# Altium integrated library Linear Technology Power Management Power Control.IntLib: 661 symbols (part 25 of 43)
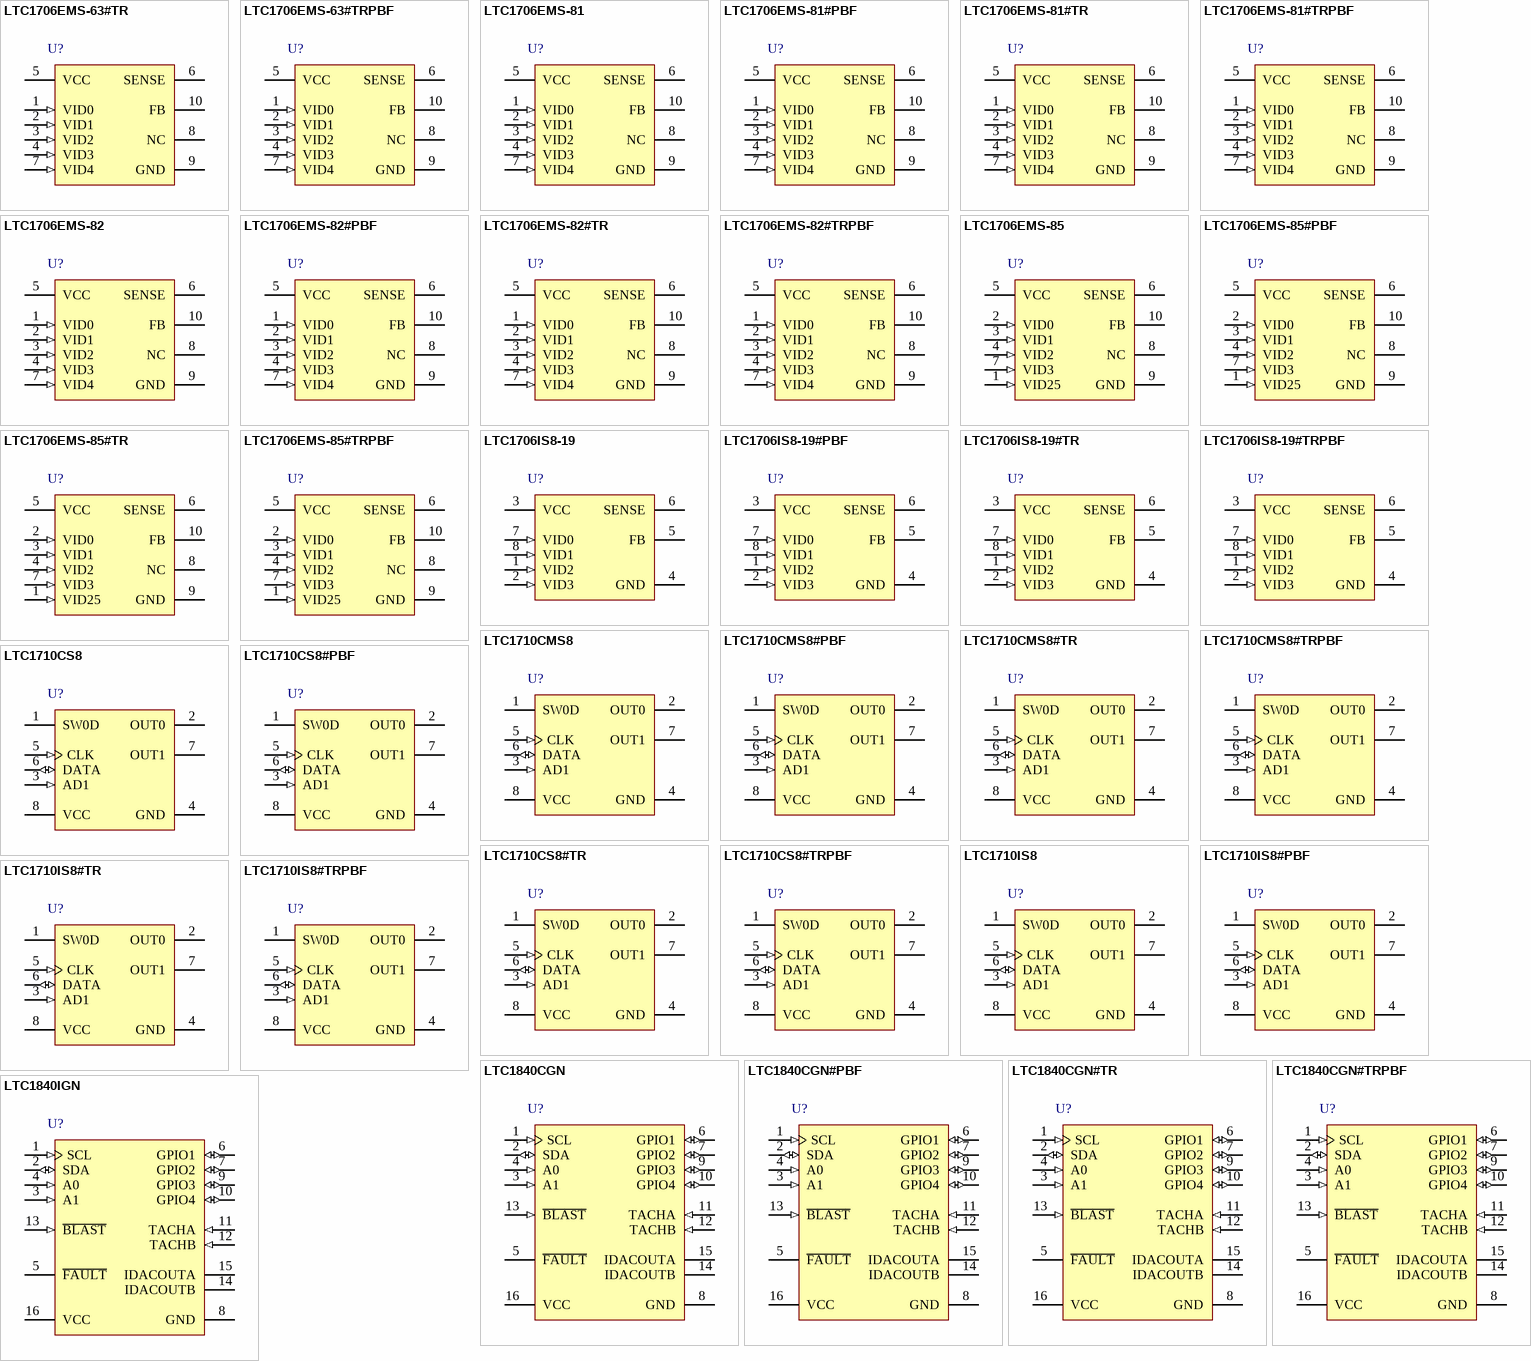
[diagram p43: symbols LTC1706EMS-63#TR to LTC1840IGN]

## LTC1840CGN
designator U?
Fan Speed Controller with Two Tach Inputs and Four General Purpose I/O, 2.7 to 5.75 V Vin, 16-pin SOP (GN-16), 0 to 70 degC; Manufacturer: Linear Technology; PartNumber: LTC1840CGN; PackageVersion: Rev. B, 03/2012; PackageReference: GN-16; PackageDescription: 16-Pin Plastic SSOP, Body 4.9 x 3.9 mm, Pitch 0.635 mm; Supplier 1: Digi-Key; Supplier Part Number 1: LTC1840CGN-ND; Supplier 2: Newark; Supplier Part Number 2: 56M3873; RoHS: FLASE; Mounting Technology: Surface Mount; ComponentLink1Description: Manufacturer URL; ComponentLink1URL: http://www.linear.com/; ComponentLink2Description: Datasheet; ComponentLink2URL: http://cds.linear.com/docs/en/datasheet/1840f.pdf; ComponentLink3Description: Package Specification; ComponentLink3URL: http://cds.linear.com/docs/en/packaging/05081641_B_GN16.pdf
footprint LT-GN-16_N (SOP, 16-Leads, Body 5x4mm, Pitch 0.635mm, IPC Medium Density)
footprint LT-GN-16_L (SOP, 16-Leads, Body 5x4mm, Pitch 0.635mm, IPC High Density)
footprint LT-GN-16_M (SOP, 16-Leads, Body 5x4mm, Pitch 0.635mm, IPC Low Density)
pins: 1 SCL (in) "Serial Clock Input. The 2-wire bus master device clocks this pin at a frequency between 0kHz and 100kHz to enable serial bus communications. Data at the SDA pin is shifted in or out on rising SCL edges. SCL has a logic (See Datasheet)", 2 SDA (io) "Serial Data Input. This is a bidirectional data pin which normally has an external pull-up resistor or current source and can be pulled down by the open drain device on the LTC1840 or by external devices. The master controls (See Datasheet)", 3 A1 (in) "Three State Address Programming Input. This pin can cause three different logic states internally, depending upon whether it is pulled to supply, pulled to ground, or not connected (NC). Combined with the A0 pin, this (See Datasheet)", 4 A0 (in) "Three State Address Programming Input. See A1.", 5 ~{FAULT} (oc) "Fault Indicator Pull-Down Output. This pin has an open drain pull-down that is used to signal various fault conditions on the LTC1840. An external 10k pull-up is recommended.", 6 GPIO1 (io) "General Purpose Inputs/Outputs. These pins can be used as digital inputs with CMOS logic thresholds or digital outputs/LED drivers with open drain pull-downs that can be programmed to blink. GPIO pins can be programmed to (See Datasheet)", 7 GPIO2 (io) "General Purpose Inputs/Outputs. These pins can be used as digital inputs with CMOS logic thresholds or digital outputs/LED drivers with open drain pull-downs that can be programmed to blink. GPIO pins can be programmed to (See Datasheet)", 8 GND (power) "Ground. Connect to analog ground plane.", 9 GPIO3 (io) "General Purpose Inputs/Outputs. These pins can be used as digital inputs with CMOS logic thresholds or digital outputs/LED drivers with open drain pull-downs that can be programmed to blink. GPIO pins can be programmed to (See Datasheet)", 10 GPIO4 (io) "General Purpose Inputs/Outputs. These pins can be used as digital inputs with CMOS logic thresholds or digital outputs/LED drivers with open drain pull-downs that can be programmed to blink. GPIO pins can be programmed to (See Datasheet)", 11 TACHA (in) "Tachometer Input A. This pin is a digital input that is designed to interface to the tachometer output from a 3-wire fan. Internal logic counts between rising TACHA edges at serially programmable frequencies of 25kHz, 12.(See Datasheet)", 12 TACHB (in) "Tachometer Input B. See TACHA", 13 ~{BLAST} (in) "Blast/Timer Function Input. This is a multifunction digital input pin that controls blast and timer operation. If this pin is in a logic high state at power-up or is transitioned from high to low, it will “blast?(See Datasheet)", 14 IDACOUTB (hiz) "Current DAC Output B. This is a high impedance output with a sinking current output of 0uA to 100uA. This current can be programmed to one of 256 values through the serial interface or it can be “blasted?immediately(See Datasheet)", 15 IDACOUTA (hiz) "Current DAC Output A. See IDACOUTB", 16 VCC (power) "Positive Supply. This pin must be closely decoupled to ground (pin 8). A 10uF tantalum and a 0.1uF ceramic capacitor in parallel are recommended."

## LTC1840CGN#PBF
designator U?
Fan Speed Controller with Two Tach Inputs and Four General Purpose I/O, 2.7 to 5.75 V Vin, 16-pin SOP (GN-16), 0 to 70 degC, Pb-Free; Manufacturer: Linear Technology; PartNumber: LTC1840CGN#PBF; PackageVersion: Rev. B, 03/2012; PackageReference: GN-16; PackageDescription: 16-Pin Plastic SSOP, Body 4.9 x 3.9 mm, Pitch 0.635 mm; Supplier 1: Digi-Key; Supplier Part Number 1: LTC1840CGN#PBF-ND; Supplier 2: Newark; Supplier Part Number 2: 56M3874; RoHS: TRUE; Mounting Technology: Surface Mount; ComponentLink1Description: Manufacturer URL; ComponentLink1URL: http://www.linear.com/; ComponentLink2Description: Datasheet; ComponentLink2URL: http://cds.linear.com/docs/en/datasheet/1840f.pdf; ComponentLink3Description: Package Specification; ComponentLink3URL: http://cds.linear.com/docs/en/packaging/05081641_B_GN16.pdf
footprint LT-GN-16_N (SOP, 16-Leads, Body 5x4mm, Pitch 0.635mm, IPC Medium Density)
footprint LT-GN-16_L (SOP, 16-Leads, Body 5x4mm, Pitch 0.635mm, IPC High Density)
footprint LT-GN-16_M (SOP, 16-Leads, Body 5x4mm, Pitch 0.635mm, IPC Low Density)
pins: 1 SCL (in) "Serial Clock Input. The 2-wire bus master device clocks this pin at a frequency between 0kHz and 100kHz to enable serial bus communications. Data at the SDA pin is shifted in or out on rising SCL edges. SCL has a logic (See Datasheet)", 2 SDA (io) "Serial Data Input. This is a bidirectional data pin which normally has an external pull-up resistor or current source and can be pulled down by the open drain device on the LTC1840 or by external devices. The master controls (See Datasheet)", 3 A1 (in) "Three State Address Programming Input. This pin can cause three different logic states internally, depending upon whether it is pulled to supply, pulled to ground, or not connected (NC). Combined with the A0 pin, this (See Datasheet)", 4 A0 (in) "Three State Address Programming Input. See A1.", 5 ~{FAULT} (oc) "Fault Indicator Pull-Down Output. This pin has an open drain pull-down that is used to signal various fault conditions on the LTC1840. An external 10k pull-up is recommended.", 6 GPIO1 (io) "General Purpose Inputs/Outputs. These pins can be used as digital inputs with CMOS logic thresholds or digital outputs/LED drivers with open drain pull-downs that can be programmed to blink. GPIO pins can be programmed to (See Datasheet)", 7 GPIO2 (io) "General Purpose Inputs/Outputs. These pins can be used as digital inputs with CMOS logic thresholds or digital outputs/LED drivers with open drain pull-downs that can be programmed to blink. GPIO pins can be programmed to (See Datasheet)", 8 GND (power) "Ground. Connect to analog ground plane.", 9 GPIO3 (io) "General Purpose Inputs/Outputs. These pins can be used as digital inputs with CMOS logic thresholds or digital outputs/LED drivers with open drain pull-downs that can be programmed to blink. GPIO pins can be programmed to (See Datasheet)", 10 GPIO4 (io) "General Purpose Inputs/Outputs. These pins can be used as digital inputs with CMOS logic thresholds or digital outputs/LED drivers with open drain pull-downs that can be programmed to blink. GPIO pins can be programmed to (See Datasheet)", 11 TACHA (in) "Tachometer Input A. This pin is a digital input that is designed to interface to the tachometer output from a 3-wire fan. Internal logic counts between rising TACHA edges at serially programmable frequencies of 25kHz, 12.(See Datasheet)", 12 TACHB (in) "Tachometer Input B. See TACHA", 13 ~{BLAST} (in) "Blast/Timer Function Input. This is a multifunction digital input pin that controls blast and timer operation. If this pin is in a logic high state at power-up or is transitioned from high to low, it will “blast?(See Datasheet)", 14 IDACOUTB (hiz) "Current DAC Output B. This is a high impedance output with a sinking current output of 0uA to 100uA. This current can be programmed to one of 256 values through the serial interface or it can be “blasted?immediately(See Datasheet)", 15 IDACOUTA (hiz) "Current DAC Output A. See IDACOUTB", 16 VCC (power) "Positive Supply. This pin must be closely decoupled to ground (pin 8). A 10uF tantalum and a 0.1uF ceramic capacitor in parallel are recommended."

## LTC1840CGN#TR
designator U?
Fan Speed Controller with Two Tach Inputs and Four General Purpose I/O, 2.7 to 5.75 V Vin, 16-pin SOP (GN-16), 0 to 70 degC, Tape and Reel; Manufacturer: Linear Technology; PartNumber: LTC1840CGN#TR; PackageVersion: Rev. B, 03/2012; PackageReference: GN-16; PackageDescription: 16-Pin Plastic SSOP, Body 4.9 x 3.9 mm, Pitch 0.635 mm; Supplier 1: Digi-Key; Supplier Part Number 1: LTC1840CGNTR-ND; Packing: Tape and Reel; RoHS: FLASE; Mounting Technology: Surface Mount; ComponentLink1Description: Manufacturer URL; ComponentLink1URL: http://www.linear.com/; ComponentLink2Description: Datasheet; ComponentLink2URL: http://cds.linear.com/docs/en/datasheet/1840f.pdf; ComponentLink3Description: Package Specification; ComponentLink3URL: http://cds.linear.com/docs/en/packaging/05081641_B_GN16.pdf
footprint LT-GN-16_N (SOP, 16-Leads, Body 5x4mm, Pitch 0.635mm, IPC Medium Density)
footprint LT-GN-16_L (SOP, 16-Leads, Body 5x4mm, Pitch 0.635mm, IPC High Density)
footprint LT-GN-16_M (SOP, 16-Leads, Body 5x4mm, Pitch 0.635mm, IPC Low Density)
pins: 1 SCL (in) "Serial Clock Input. The 2-wire bus master device clocks this pin at a frequency between 0kHz and 100kHz to enable serial bus communications. Data at the SDA pin is shifted in or out on rising SCL edges. SCL has a logic (See Datasheet)", 2 SDA (io) "Serial Data Input. This is a bidirectional data pin which normally has an external pull-up resistor or current source and can be pulled down by the open drain device on the LTC1840 or by external devices. The master controls (See Datasheet)", 3 A1 (in) "Three State Address Programming Input. This pin can cause three different logic states internally, depending upon whether it is pulled to supply, pulled to ground, or not connected (NC). Combined with the A0 pin, this (See Datasheet)", 4 A0 (in) "Three State Address Programming Input. See A1.", 5 ~{FAULT} (oc) "Fault Indicator Pull-Down Output. This pin has an open drain pull-down that is used to signal various fault conditions on the LTC1840. An external 10k pull-up is recommended.", 6 GPIO1 (io) "General Purpose Inputs/Outputs. These pins can be used as digital inputs with CMOS logic thresholds or digital outputs/LED drivers with open drain pull-downs that can be programmed to blink. GPIO pins can be programmed to (See Datasheet)", 7 GPIO2 (io) "General Purpose Inputs/Outputs. These pins can be used as digital inputs with CMOS logic thresholds or digital outputs/LED drivers with open drain pull-downs that can be programmed to blink. GPIO pins can be programmed to (See Datasheet)", 8 GND (power) "Ground. Connect to analog ground plane.", 9 GPIO3 (io) "General Purpose Inputs/Outputs. These pins can be used as digital inputs with CMOS logic thresholds or digital outputs/LED drivers with open drain pull-downs that can be programmed to blink. GPIO pins can be programmed to (See Datasheet)", 10 GPIO4 (io) "General Purpose Inputs/Outputs. These pins can be used as digital inputs with CMOS logic thresholds or digital outputs/LED drivers with open drain pull-downs that can be programmed to blink. GPIO pins can be programmed to (See Datasheet)", 11 TACHA (in) "Tachometer Input A. This pin is a digital input that is designed to interface to the tachometer output from a 3-wire fan. Internal logic counts between rising TACHA edges at serially programmable frequencies of 25kHz, 12.(See Datasheet)", 12 TACHB (in) "Tachometer Input B. See TACHA", 13 ~{BLAST} (in) "Blast/Timer Function Input. This is a multifunction digital input pin that controls blast and timer operation. If this pin is in a logic high state at power-up or is transitioned from high to low, it will “blast?(See Datasheet)", 14 IDACOUTB (hiz) "Current DAC Output B. This is a high impedance output with a sinking current output of 0uA to 100uA. This current can be programmed to one of 256 values through the serial interface or it can be “blasted?immediately(See Datasheet)", 15 IDACOUTA (hiz) "Current DAC Output A. See IDACOUTB", 16 VCC (power) "Positive Supply. This pin must be closely decoupled to ground (pin 8). A 10uF tantalum and a 0.1uF ceramic capacitor in parallel are recommended."

## LTC1840CGN#TRPBF
designator U?
Fan Speed Controller with Two Tach Inputs and Four General Purpose I/O, 2.7 to 5.75 V Vin, 16-pin SOP (GN-16), 0 to 70 degC, Pb-Free, Tape and Reel; Manufacturer: Linear Technology; PartNumber: LTC1840CGN#TRPBF; PackageVersion: Rev. B, 03/2012; PackageReference: GN-16; PackageDescription: 16-Pin Plastic SSOP, Body 4.9 x 3.9 mm, Pitch 0.635 mm; Supplier 1: Digi-Key; Supplier Part Number 1: LTC1840CGN#TRPBF-ND; Supplier 2: Newark; Supplier Part Number 2: 56M3876; Packing: Tape and Reel; RoHS: TRUE; Mounting Technology: Surface Mount; ComponentLink1Description: Manufacturer URL; ComponentLink1URL: http://www.linear.com/; ComponentLink2Description: Datasheet; ComponentLink2URL: http://cds.linear.com/docs/en/datasheet/1840f.pdf; ComponentLink3Description: Package Specification; ComponentLink3URL: http://cds.linear.com/docs/en/packaging/05081641_B_GN16.pdf
footprint LT-GN-16_N (SOP, 16-Leads, Body 5x4mm, Pitch 0.635mm, IPC Medium Density)
footprint LT-GN-16_L (SOP, 16-Leads, Body 5x4mm, Pitch 0.635mm, IPC High Density)
footprint LT-GN-16_M (SOP, 16-Leads, Body 5x4mm, Pitch 0.635mm, IPC Low Density)
pins: 1 SCL (in) "Serial Clock Input. The 2-wire bus master device clocks this pin at a frequency between 0kHz and 100kHz to enable serial bus communications. Data at the SDA pin is shifted in or out on rising SCL edges. SCL has a logic (See Datasheet)", 2 SDA (io) "Serial Data Input. This is a bidirectional data pin which normally has an external pull-up resistor or current source and can be pulled down by the open drain device on the LTC1840 or by external devices. The master controls (See Datasheet)", 3 A1 (in) "Three State Address Programming Input. This pin can cause three different logic states internally, depending upon whether it is pulled to supply, pulled to ground, or not connected (NC). Combined with the A0 pin, this (See Datasheet)", 4 A0 (in) "Three State Address Programming Input. See A1.", 5 ~{FAULT} (oc) "Fault Indicator Pull-Down Output. This pin has an open drain pull-down that is used to signal various fault conditions on the LTC1840. An external 10k pull-up is recommended.", 6 GPIO1 (io) "General Purpose Inputs/Outputs. These pins can be used as digital inputs with CMOS logic thresholds or digital outputs/LED drivers with open drain pull-downs that can be programmed to blink. GPIO pins can be programmed to (See Datasheet)", 7 GPIO2 (io) "General Purpose Inputs/Outputs. These pins can be used as digital inputs with CMOS logic thresholds or digital outputs/LED drivers with open drain pull-downs that can be programmed to blink. GPIO pins can be programmed to (See Datasheet)", 8 GND (power) "Ground. Connect to analog ground plane.", 9 GPIO3 (io) "General Purpose Inputs/Outputs. These pins can be used as digital inputs with CMOS logic thresholds or digital outputs/LED drivers with open drain pull-downs that can be programmed to blink. GPIO pins can be programmed to (See Datasheet)", 10 GPIO4 (io) "General Purpose Inputs/Outputs. These pins can be used as digital inputs with CMOS logic thresholds or digital outputs/LED drivers with open drain pull-downs that can be programmed to blink. GPIO pins can be programmed to (See Datasheet)", 11 TACHA (in) "Tachometer Input A. This pin is a digital input that is designed to interface to the tachometer output from a 3-wire fan. Internal logic counts between rising TACHA edges at serially programmable frequencies of 25kHz, 12.(See Datasheet)", 12 TACHB (in) "Tachometer Input B. See TACHA", 13 ~{BLAST} (in) "Blast/Timer Function Input. This is a multifunction digital input pin that controls blast and timer operation. If this pin is in a logic high state at power-up or is transitioned from high to low, it will “blast?(See Datasheet)", 14 IDACOUTB (hiz) "Current DAC Output B. This is a high impedance output with a sinking current output of 0uA to 100uA. This current can be programmed to one of 256 values through the serial interface or it can be “blasted?immediately(See Datasheet)", 15 IDACOUTA (hiz) "Current DAC Output A. See IDACOUTB", 16 VCC (power) "Positive Supply. This pin must be closely decoupled to ground (pin 8). A 10uF tantalum and a 0.1uF ceramic capacitor in parallel are recommended."

## LTC1840IGN
designator U?
Fan Speed Controller with Two Tach Inputs and Four General Purpose I/O, 2.7 to 5.75 V Vin, 16-pin SOP (GN-16), -40 to 85 degC; Manufacturer: Linear Technology; PartNumber: LTC1840IGN; PackageVersion: Rev. B, 03/2012; PackageReference: GN-16; PackageDescription: 16-Pin Plastic SSOP, Body 4.9 x 3.9 mm, Pitch 0.635 mm; Supplier 1: Digi-Key; Supplier Part Number 1: LTC1840IGN-ND; Supplier 2: Newark; Supplier Part Number 2: 56M3877; RoHS: FLASE; Mounting Technology: Surface Mount; ComponentLink1Description: Manufacturer URL; ComponentLink1URL: http://www.linear.com/; ComponentLink2Description: Datasheet; ComponentLink2URL: http://cds.linear.com/docs/en/datasheet/1840f.pdf; ComponentLink3Description: Package Specification; ComponentLink3URL: http://cds.linear.com/docs/en/packaging/05081641_B_GN16.pdf
footprint LT-GN-16_N (SOP, 16-Leads, Body 5x4mm, Pitch 0.635mm, IPC Medium Density)
footprint LT-GN-16_L (SOP, 16-Leads, Body 5x4mm, Pitch 0.635mm, IPC High Density)
footprint LT-GN-16_M (SOP, 16-Leads, Body 5x4mm, Pitch 0.635mm, IPC Low Density)
pins: 1 SCL (in) "Serial Clock Input. The 2-wire bus master device clocks this pin at a frequency between 0kHz and 100kHz to enable serial bus communications. Data at the SDA pin is shifted in or out on rising SCL edges. SCL has a logic (See Datasheet)", 2 SDA (io) "Serial Data Input. This is a bidirectional data pin which normally has an external pull-up resistor or current source and can be pulled down by the open drain device on the LTC1840 or by external devices. The master controls (See Datasheet)", 3 A1 (in) "Three State Address Programming Input. This pin can cause three different logic states internally, depending upon whether it is pulled to supply, pulled to ground, or not connected (NC). Combined with the A0 pin, this (See Datasheet)", 4 A0 (in) "Three State Address Programming Input. See A1.", 5 ~{FAULT} (oc) "Fault Indicator Pull-Down Output. This pin has an open drain pull-down that is used to signal various fault conditions on the LTC1840. An external 10k pull-up is recommended.", 6 GPIO1 (io) "General Purpose Inputs/Outputs. These pins can be used as digital inputs with CMOS logic thresholds or digital outputs/LED drivers with open drain pull-downs that can be programmed to blink. GPIO pins can be programmed to (See Datasheet)", 7 GPIO2 (io) "General Purpose Inputs/Outputs. These pins can be used as digital inputs with CMOS logic thresholds or digital outputs/LED drivers with open drain pull-downs that can be programmed to blink. GPIO pins can be programmed to (See Datasheet)", 8 GND (power) "Ground. Connect to analog ground plane.", 9 GPIO3 (io) "General Purpose Inputs/Outputs. These pins can be used as digital inputs with CMOS logic thresholds or digital outputs/LED drivers with open drain pull-downs that can be programmed to blink. GPIO pins can be programmed to (See Datasheet)", 10 GPIO4 (io) "General Purpose Inputs/Outputs. These pins can be used as digital inputs with CMOS logic thresholds or digital outputs/LED drivers with open drain pull-downs that can be programmed to blink. GPIO pins can be programmed to (See Datasheet)", 11 TACHA (in) "Tachometer Input A. This pin is a digital input that is designed to interface to the tachometer output from a 3-wire fan. Internal logic counts between rising TACHA edges at serially programmable frequencies of 25kHz, 12.(See Datasheet)", 12 TACHB (in) "Tachometer Input B. See TACHA", 13 ~{BLAST} (in) "Blast/Timer Function Input. This is a multifunction digital input pin that controls blast and timer operation. If this pin is in a logic high state at power-up or is transitioned from high to low, it will “blast?(See Datasheet)", 14 IDACOUTB (hiz) "Current DAC Output B. This is a high impedance output with a sinking current output of 0uA to 100uA. This current can be programmed to one of 256 values through the serial interface or it can be “blasted?immediately(See Datasheet)", 15 IDACOUTA (hiz) "Current DAC Output A. See IDACOUTB", 16 VCC (power) "Positive Supply. This pin must be closely decoupled to ground (pin 8). A 10uF tantalum and a 0.1uF ceramic capacitor in parallel are recommended."

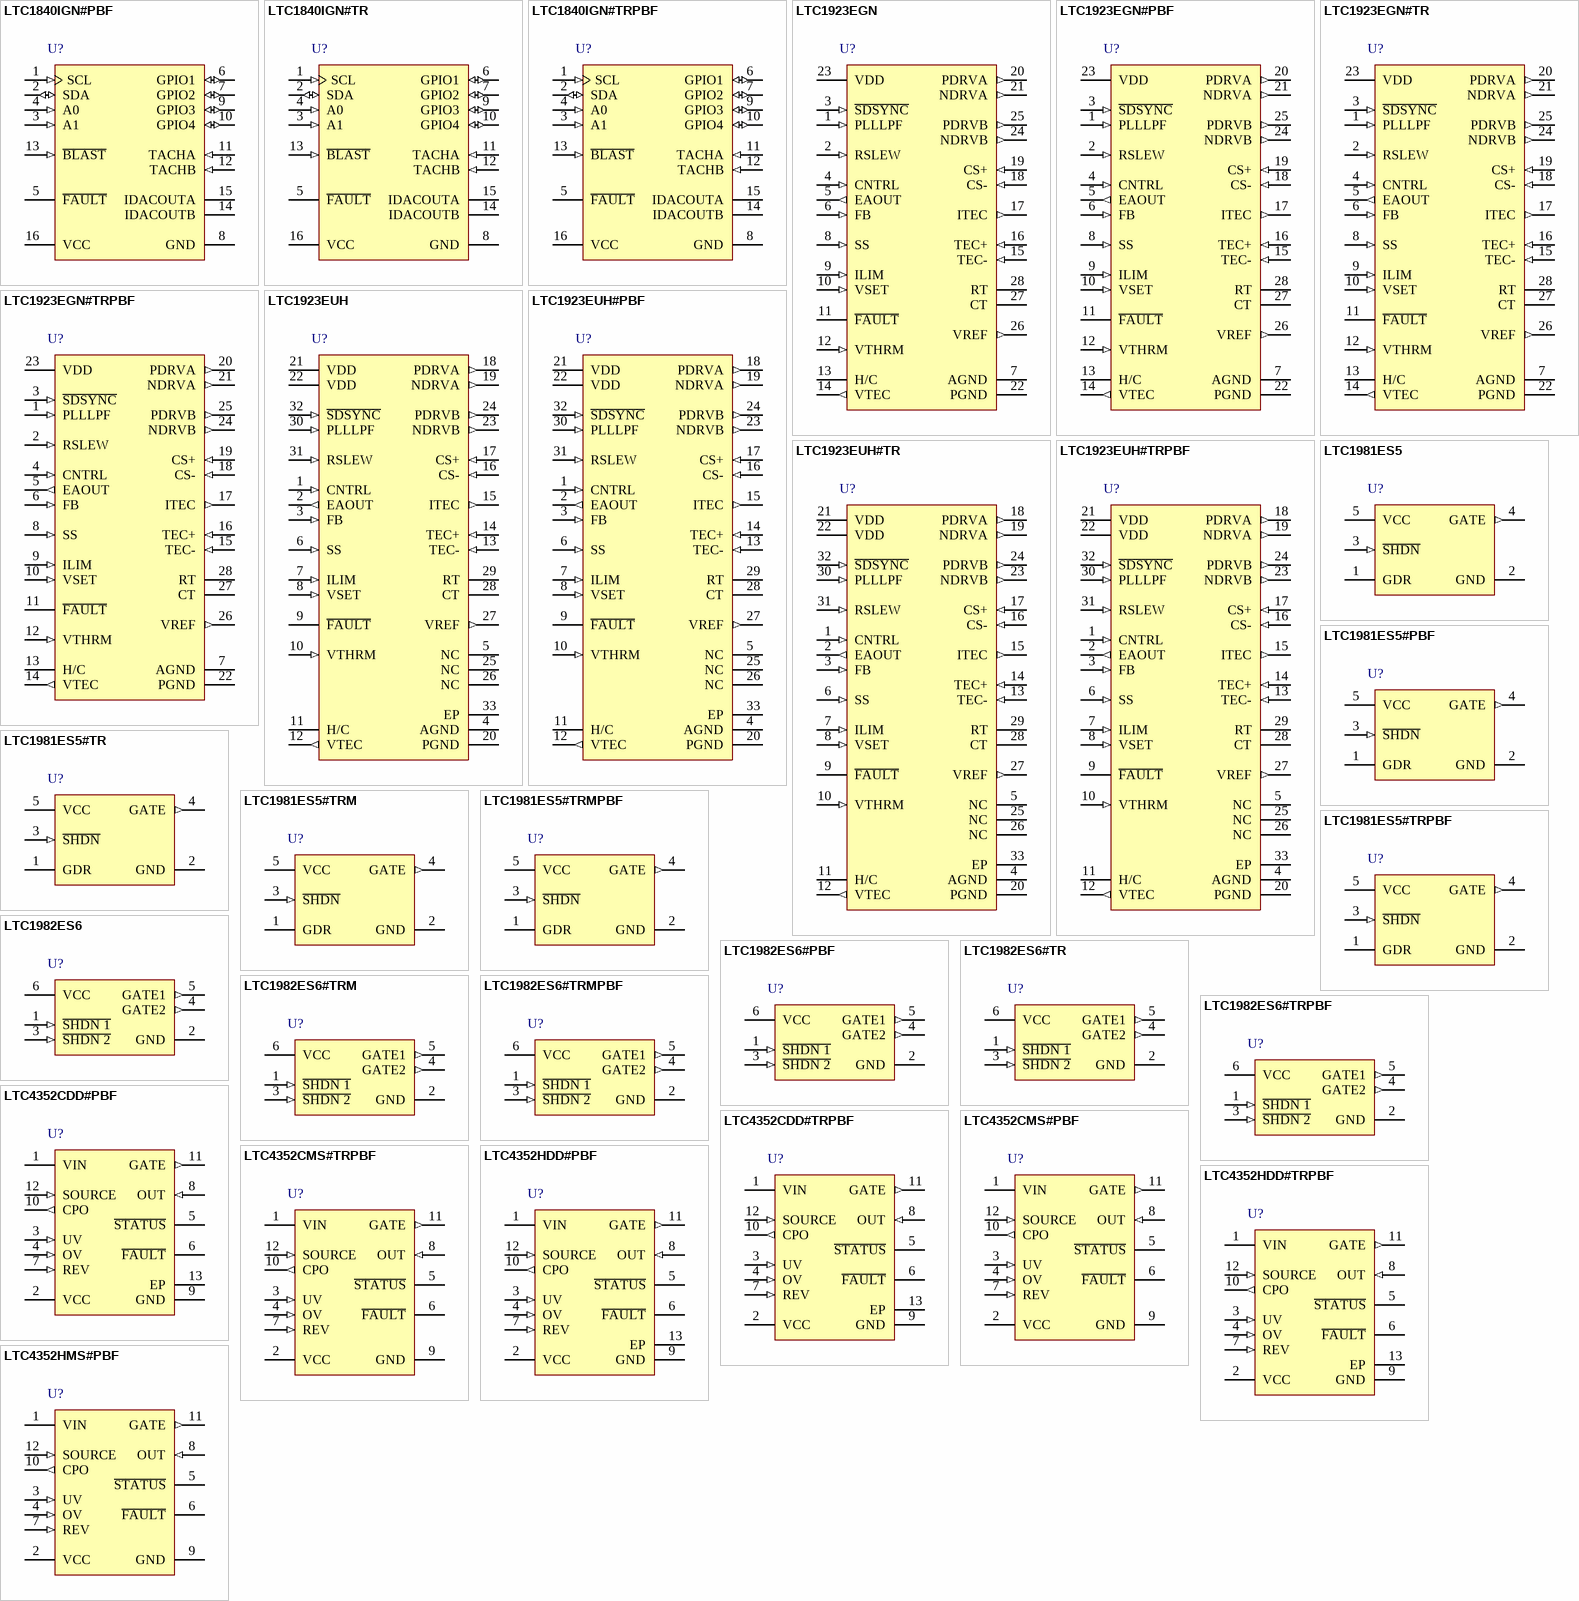
[diagram p12: symbols LTC1840IGN#PBF to LTC4352HMS#PBF]

## LTC1840IGN#PBF
designator U?
Fan Speed Controller with Two Tach Inputs and Four General Purpose I/O, 2.7 to 5.75 V Vin, 16-pin SOP (GN-16), -40 to 85 degC, Pb-Free; Manufacturer: Linear Technology; PartNumber: LTC1840IGN#PBF; PackageVersion: Rev. B, 03/2012; PackageReference: GN-16; PackageDescription: 16-Pin Plastic SSOP, Body 4.9 x 3.9 mm, Pitch 0.635 mm; Supplier 1: Digi-Key; Supplier Part Number 1: LTC1840IGN#PBF-ND; Supplier 2: Farnell; Supplier Part Number 2: 1609782; Supplier 3: Newark; Supplier Part Number 3: 56M3878; RoHS: TRUE; Mounting Technology: Surface Mount; ComponentLink1Description: Manufacturer URL; ComponentLink1URL: http://www.linear.com/; ComponentLink2Description: Datasheet; ComponentLink2URL: http://cds.linear.com/docs/en/datasheet/1840f.pdf; ComponentLink3Description: Package Specification; ComponentLink3URL: http://cds.linear.com/docs/en/packaging/05081641_B_GN16.pdf
footprint LT-GN-16_N (SOP, 16-Leads, Body 5x4mm, Pitch 0.635mm, IPC Medium Density)
footprint LT-GN-16_L (SOP, 16-Leads, Body 5x4mm, Pitch 0.635mm, IPC High Density)
footprint LT-GN-16_M (SOP, 16-Leads, Body 5x4mm, Pitch 0.635mm, IPC Low Density)
pins: 1 SCL (in) "Serial Clock Input. The 2-wire bus master device clocks this pin at a frequency between 0kHz and 100kHz to enable serial bus communications. Data at the SDA pin is shifted in or out on rising SCL edges. SCL has a logic (See Datasheet)", 2 SDA (io) "Serial Data Input. This is a bidirectional data pin which normally has an external pull-up resistor or current source and can be pulled down by the open drain device on the LTC1840 or by external devices. The master controls (See Datasheet)", 3 A1 (in) "Three State Address Programming Input. This pin can cause three different logic states internally, depending upon whether it is pulled to supply, pulled to ground, or not connected (NC). Combined with the A0 pin, this (See Datasheet)", 4 A0 (in) "Three State Address Programming Input. See A1.", 5 ~{FAULT} (oc) "Fault Indicator Pull-Down Output. This pin has an open drain pull-down that is used to signal various fault conditions on the LTC1840. An external 10k pull-up is recommended.", 6 GPIO1 (io) "General Purpose Inputs/Outputs. These pins can be used as digital inputs with CMOS logic thresholds or digital outputs/LED drivers with open drain pull-downs that can be programmed to blink. GPIO pins can be programmed to (See Datasheet)", 7 GPIO2 (io) "General Purpose Inputs/Outputs. These pins can be used as digital inputs with CMOS logic thresholds or digital outputs/LED drivers with open drain pull-downs that can be programmed to blink. GPIO pins can be programmed to (See Datasheet)", 8 GND (power) "Ground. Connect to analog ground plane.", 9 GPIO3 (io) "General Purpose Inputs/Outputs. These pins can be used as digital inputs with CMOS logic thresholds or digital outputs/LED drivers with open drain pull-downs that can be programmed to blink. GPIO pins can be programmed to (See Datasheet)", 10 GPIO4 (io) "General Purpose Inputs/Outputs. These pins can be used as digital inputs with CMOS logic thresholds or digital outputs/LED drivers with open drain pull-downs that can be programmed to blink. GPIO pins can be programmed to (See Datasheet)", 11 TACHA (in) "Tachometer Input A. This pin is a digital input that is designed to interface to the tachometer output from a 3-wire fan. Internal logic counts between rising TACHA edges at serially programmable frequencies of 25kHz, 12.(See Datasheet)", 12 TACHB (in) "Tachometer Input B. See TACHA", 13 ~{BLAST} (in) "Blast/Timer Function Input. This is a multifunction digital input pin that controls blast and timer operation. If this pin is in a logic high state at power-up or is transitioned from high to low, it will “blast?(See Datasheet)", 14 IDACOUTB (hiz) "Current DAC Output B. This is a high impedance output with a sinking current output of 0uA to 100uA. This current can be programmed to one of 256 values through the serial interface or it can be “blasted?immediately(See Datasheet)", 15 IDACOUTA (hiz) "Current DAC Output A. See IDACOUTB", 16 VCC (power) "Positive Supply. This pin must be closely decoupled to ground (pin 8). A 10uF tantalum and a 0.1uF ceramic capacitor in parallel are recommended."

## LTC1840IGN#TR
designator U?
Fan Speed Controller with Two Tach Inputs and Four General Purpose I/O, 2.7 to 5.75 V Vin, 16-pin SOP (GN-16), -40 to 85 degC, Tape and Reel; Manufacturer: Linear Technology; PartNumber: LTC1840IGN#TR; PackageVersion: Rev. B, 03/2012; PackageReference: GN-16; PackageDescription: 16-Pin Plastic SSOP, Body 4.9 x 3.9 mm, Pitch 0.635 mm; Supplier 1: Digi-Key; Supplier Part Number 1: LTC1840IGNTR-ND; Packing: Tape and Reel; RoHS: FLASE; Mounting Technology: Surface Mount; ComponentLink1Description: Manufacturer URL; ComponentLink1URL: http://www.linear.com/; ComponentLink2Description: Datasheet; ComponentLink2URL: http://cds.linear.com/docs/en/datasheet/1840f.pdf; ComponentLink3Description: Package Specification; ComponentLink3URL: http://cds.linear.com/docs/en/packaging/05081641_B_GN16.pdf
footprint LT-GN-16_N (SOP, 16-Leads, Body 5x4mm, Pitch 0.635mm, IPC Medium Density)
footprint LT-GN-16_L (SOP, 16-Leads, Body 5x4mm, Pitch 0.635mm, IPC High Density)
footprint LT-GN-16_M (SOP, 16-Leads, Body 5x4mm, Pitch 0.635mm, IPC Low Density)
pins: 1 SCL (in) "Serial Clock Input. The 2-wire bus master device clocks this pin at a frequency between 0kHz and 100kHz to enable serial bus communications. Data at the SDA pin is shifted in or out on rising SCL edges. SCL has a logic (See Datasheet)", 2 SDA (io) "Serial Data Input. This is a bidirectional data pin which normally has an external pull-up resistor or current source and can be pulled down by the open drain device on the LTC1840 or by external devices. The master controls (See Datasheet)", 3 A1 (in) "Three State Address Programming Input. This pin can cause three different logic states internally, depending upon whether it is pulled to supply, pulled to ground, or not connected (NC). Combined with the A0 pin, this (See Datasheet)", 4 A0 (in) "Three State Address Programming Input. See A1.", 5 ~{FAULT} (oc) "Fault Indicator Pull-Down Output. This pin has an open drain pull-down that is used to signal various fault conditions on the LTC1840. An external 10k pull-up is recommended.", 6 GPIO1 (io) "General Purpose Inputs/Outputs. These pins can be used as digital inputs with CMOS logic thresholds or digital outputs/LED drivers with open drain pull-downs that can be programmed to blink. GPIO pins can be programmed to (See Datasheet)", 7 GPIO2 (io) "General Purpose Inputs/Outputs. These pins can be used as digital inputs with CMOS logic thresholds or digital outputs/LED drivers with open drain pull-downs that can be programmed to blink. GPIO pins can be programmed to (See Datasheet)", 8 GND (power) "Ground. Connect to analog ground plane.", 9 GPIO3 (io) "General Purpose Inputs/Outputs. These pins can be used as digital inputs with CMOS logic thresholds or digital outputs/LED drivers with open drain pull-downs that can be programmed to blink. GPIO pins can be programmed to (See Datasheet)", 10 GPIO4 (io) "General Purpose Inputs/Outputs. These pins can be used as digital inputs with CMOS logic thresholds or digital outputs/LED drivers with open drain pull-downs that can be programmed to blink. GPIO pins can be programmed to (See Datasheet)", 11 TACHA (in) "Tachometer Input A. This pin is a digital input that is designed to interface to the tachometer output from a 3-wire fan. Internal logic counts between rising TACHA edges at serially programmable frequencies of 25kHz, 12.(See Datasheet)", 12 TACHB (in) "Tachometer Input B. See TACHA", 13 ~{BLAST} (in) "Blast/Timer Function Input. This is a multifunction digital input pin that controls blast and timer operation. If this pin is in a logic high state at power-up or is transitioned from high to low, it will “blast?(See Datasheet)", 14 IDACOUTB (hiz) "Current DAC Output B. This is a high impedance output with a sinking current output of 0uA to 100uA. This current can be programmed to one of 256 values through the serial interface or it can be “blasted?immediately(See Datasheet)", 15 IDACOUTA (hiz) "Current DAC Output A. See IDACOUTB", 16 VCC (power) "Positive Supply. This pin must be closely decoupled to ground (pin 8). A 10uF tantalum and a 0.1uF ceramic capacitor in parallel are recommended."

## LTC1840IGN#TRPBF
designator U?
Fan Speed Controller with Two Tach Inputs and Four General Purpose I/O, 2.7 to 5.75 V Vin, 16-pin SOP (GN-16), -40 to 85 degC, Pb-Free, Tape and Reel; Manufacturer: Linear Technology; PartNumber: LTC1840IGN#TRPBF; PackageVersion: Rev. B, 03/2012; PackageReference: GN-16; PackageDescription: 16-Pin Plastic SSOP, Body 4.9 x 3.9 mm, Pitch 0.635 mm; Supplier 1: Digi-Key; Supplier Part Number 1: LTC1840IGN#TRPBF-ND; Packing: Tape and Reel; RoHS: TRUE; Mounting Technology: Surface Mount; ComponentLink1Description: Manufacturer URL; ComponentLink1URL: http://www.linear.com/; ComponentLink2Description: Datasheet; ComponentLink2URL: http://cds.linear.com/docs/en/datasheet/1840f.pdf; ComponentLink3Description: Package Specification; ComponentLink3URL: http://cds.linear.com/docs/en/packaging/05081641_B_GN16.pdf
footprint LT-GN-16_N (SOP, 16-Leads, Body 5x4mm, Pitch 0.635mm, IPC Medium Density)
footprint LT-GN-16_L (SOP, 16-Leads, Body 5x4mm, Pitch 0.635mm, IPC High Density)
footprint LT-GN-16_M (SOP, 16-Leads, Body 5x4mm, Pitch 0.635mm, IPC Low Density)
pins: 1 SCL (in) "Serial Clock Input. The 2-wire bus master device clocks this pin at a frequency between 0kHz and 100kHz to enable serial bus communications. Data at the SDA pin is shifted in or out on rising SCL edges. SCL has a logic (See Datasheet)", 2 SDA (io) "Serial Data Input. This is a bidirectional data pin which normally has an external pull-up resistor or current source and can be pulled down by the open drain device on the LTC1840 or by external devices. The master controls (See Datasheet)", 3 A1 (in) "Three State Address Programming Input. This pin can cause three different logic states internally, depending upon whether it is pulled to supply, pulled to ground, or not connected (NC). Combined with the A0 pin, this (See Datasheet)", 4 A0 (in) "Three State Address Programming Input. See A1.", 5 ~{FAULT} (oc) "Fault Indicator Pull-Down Output. This pin has an open drain pull-down that is used to signal various fault conditions on the LTC1840. An external 10k pull-up is recommended.", 6 GPIO1 (io) "General Purpose Inputs/Outputs. These pins can be used as digital inputs with CMOS logic thresholds or digital outputs/LED drivers with open drain pull-downs that can be programmed to blink. GPIO pins can be programmed to (See Datasheet)", 7 GPIO2 (io) "General Purpose Inputs/Outputs. These pins can be used as digital inputs with CMOS logic thresholds or digital outputs/LED drivers with open drain pull-downs that can be programmed to blink. GPIO pins can be programmed to (See Datasheet)", 8 GND (power) "Ground. Connect to analog ground plane.", 9 GPIO3 (io) "General Purpose Inputs/Outputs. These pins can be used as digital inputs with CMOS logic thresholds or digital outputs/LED drivers with open drain pull-downs that can be programmed to blink. GPIO pins can be programmed to (See Datasheet)", 10 GPIO4 (io) "General Purpose Inputs/Outputs. These pins can be used as digital inputs with CMOS logic thresholds or digital outputs/LED drivers with open drain pull-downs that can be programmed to blink. GPIO pins can be programmed to (See Datasheet)", 11 TACHA (in) "Tachometer Input A. This pin is a digital input that is designed to interface to the tachometer output from a 3-wire fan. Internal logic counts between rising TACHA edges at serially programmable frequencies of 25kHz, 12.(See Datasheet)", 12 TACHB (in) "Tachometer Input B. See TACHA", 13 ~{BLAST} (in) "Blast/Timer Function Input. This is a multifunction digital input pin that controls blast and timer operation. If this pin is in a logic high state at power-up or is transitioned from high to low, it will “blast?(See Datasheet)", 14 IDACOUTB (hiz) "Current DAC Output B. This is a high impedance output with a sinking current output of 0uA to 100uA. This current can be programmed to one of 256 values through the serial interface or it can be “blasted?immediately(See Datasheet)", 15 IDACOUTA (hiz) "Current DAC Output A. See IDACOUTB", 16 VCC (power) "Positive Supply. This pin must be closely decoupled to ground (pin 8). A 10uF tantalum and a 0.1uF ceramic capacitor in parallel are recommended."

## LTC1923EGN
designator U?
High Efficiency, Low Noise Topology, 2.7 to 5.5 V Vin, 28-pin SOP (GN-28), -40 to 85 degC; Manufacturer: Linear Technology; PartNumber: LTC1923EGN; PackageVersion: Rev. B, 03/2012; PackageReference: GN-28; PackageDescription: 28-Pin Plastic SSOP, Body 9.9 x 3.9 mm, Pitch 0.635 mm; Supplier 1: Digi-Key; Supplier Part Number 1: LTC1923EGN-ND; Supplier 2: Newark; Supplier Part Number 2: 56M4347; RoHS: FALSE; Mounting Technology: Surface Mount; ComponentLink1Description: Manufacturer URL; ComponentLink1URL: http://www.linear.com/; ComponentLink2Description: Datasheet; ComponentLink2URL: http://cds.linear.com/docs/en/datasheet/1923f.pdf; ComponentLink3Description: Package Specification; ComponentLink3URL: http://cds.linear.com/docs/en/packaging/05081641_B_GN28.pdf
footprint LT-GN-28_N (SOP, 28-Leads, Body 9.98x3.98mm, Pitch 0.635mm, IPC Medium Density)
footprint LT-GN-28_L (SOP, 28-Leads, Body 9.98x3.98mm, Pitch 0.635mm, IPC High Density)
footprint LT-GN-28_M (SOP, 28-Leads, Body 9.98x3.98mm, Pitch 0.635mm, IPC Low Density)
pins: 1 PLLLPF (in) "This pin serves as the lowpass filter for the phase-locked loop when the part is being synchronized. The average voltage on this pin equally alters both the oscillator charge and discharge currents, thereby changing the (See Datasheet)", 2 RSLEW (in) "Placing a resistor from this pin to AGND sets the voltage slew rate of the output driver pins. The minimum resistor value is 10k and the maximum value is 300k. Slew rate limiting can be disabled by tying this pin to VDD, (See Datasheet)", 3 ~{SDSYNC} (in) "This pin can be used to disable the IC, synchronize the internal oscillator or be the master to synchronize other devices. Grounding this pin will disable all internal circuitry and cause NDRVA and NDRVB to be forced low and (See Datasheet)", 4 CNTRL (in) "Noninverting Input to the Error Amplifier.", 5 EAOUT (out) "Output of the Error Amplifier. The loop compensation network is connected between this pin and FB. The voltage on this pin is the input to the PWM comparator and commands anywhere between 0% and 100% duty cycle to control (See Datasheet)", 6 FB (in) "The Inverting Input to the Error Amplifier. This input is connected to EAOUT through a compensating feedback network.", 7 AGND (power) "Signal Ground. All voltages are measured with respect to AGND. Bypass VDD and VREF with low ESR capacitors to the ground plane near this pin", 8 SS (in) "The TEC current can be soft-started by adding a capacitor from this pin to ground. This capacitor will be charged by a 1.5 uA current source. This pin connects to one of the inverting inputs of the current limit comparator (See Datasheet)", 9 ILIM (in) "A voltage divider from VREF to this pin sets the current limit threshold for the TEC. If the voltage on this pin is set higher than 1V, then ILIMIT = 150mV/RS as that is the internal current limit comparator level. If the (See Datasheet)", 10 VSET (in) "This is the input for the setpoint reference of the temperature sense element divider network or bridge. This pin must be connected to the bias source for the thermistor divider network", 11 ~{FAULT} (oc) "Open-drain output that indicates by pulling low when the voltage on VTHRM is outside the specified window, the part is in shutdown, undervoltage lockout (UVLO), or the reference is not good. When the voltage on VTHRM is (See Datasheet)", 12 VTHRM (in) "Voltage Across the Thermistor. If the voltage on this pin is outside the range between 410mV below VSET and 0.2 • VSET, the F\A\U\L\T\ pin will be asserted (and latched) low indicating that the thermistor temperature ha(See Datasheet)", 13 H/C (oc) "This open-drain output provides the direction information of the TEC current flow. If TEC+ is greater than TEC-, which typically corresponds to the system cooling, this output will be a logic low. If the opposite is the (See Datasheet)", 14 VTEC (out) "Output of the differential TEC voltage amplifier equal to the magnitude of the voltage across the TEC.", 15 TEC- (in) "Inverting Input to the Differential TEC Voltage Amplifier. This amplifier has a fixed gain of 1 with its output being the voltage across the TEC with respect to AGND. This input, along with TEC+, signifies whether the TEC is (See Datasheet)", 16 TEC+ (in) "Noninverting Input to the Differential TEC Voltage Amplifier.", 17 ITEC (out) "Output of the Differential Current Sense Amplifier. The voltage on this pin is equal to 10 • (ITEC + IRIPPLE) • RS, where ITEC is the thermoelectric cooler current, IRIPPLE is the inductor ripple current and RS is (See Datasheet)", 18 CS- (in) "Inverting Input to the Differential Current Sense Amplifier.", 19 CS+ (in) "Noninverting Input of the Differential Current Sense Amplifier. The amplifier has a fixed gain of 10.", 20 PDRVA (out) "These pushpull outputs are configured to drive the opposite high side PMOS switches in a full-bridge arrangement.", 21 NDRVA (out) "These pushpull outputs are configured to drive the opposite low side switches in a full-bridge arrangement.", 22 PGND (power) "This is the high current ground for the IC. The external current sense resistor should be referenced to this point.", 23 VDD (power) "Positive Supply Rail for the IC. Bypass this pin to PGND and AGND with >10uF low ESL, ESR ceramic capacitors. The turn on voltage level for VDD is 2.6V with 130mV of hysteresis.", 24 NDRVB (out) "These pushpull outputs are configured to drive the opposite low side switches in a full-bridge arrangement.", 25 PDRVB (out) "These pushpull outputs are configured to drive the opposite high side PMOS switches in a full-bridge arrangement.", 26 VREF (out) "This is the output of the Reference. This pin should be bypassed to GND with a 1uF ceramic capacitor. The reference is able to supply a minimum of 10mA of current and is internally short-circuit current limited", 27 CT "The triangular wave oscillator timing capacitor pin is used in conjunction with RT to set the oscillator frequency.", 28 RT "A single resistor from RT to AGND sets the charging and discharging currents for the triangle oscillator. This pin also sets the dead time between turning one set of outputs off and turning the other set on to ensure the (See Datasheet)"

## LTC1923EGN#PBF
designator U?
High Efficiency, Low Noise Topology, 2.7 to 5.5 V Vin, 28-pin SOP (GN-28), -40 to 85 degC, Pb-Free; Manufacturer: Linear Technology; PartNumber: LTC1923EGN#PBF; PackageVersion: Rev. B, 03/2012; PackageReference: GN-28; PackageDescription: 28-Pin Plastic SSOP, Body 9.9 x 3.9 mm, Pitch 0.635 mm; Supplier 1: Digi-Key; Supplier Part Number 1: LTC1923EGN#PBF-ND; Supplier 2: Newark; Supplier Part Number 2: 56M4348; RoHS: TRUE; Mounting Technology: Surface Mount; ComponentLink1Description: Manufacturer URL; ComponentLink1URL: http://www.linear.com/; ComponentLink2Description: Datasheet; ComponentLink2URL: http://cds.linear.com/docs/en/datasheet/1923f.pdf; ComponentLink3Description: Package Specification; ComponentLink3URL: http://cds.linear.com/docs/en/packaging/05081641_B_GN28.pdf
footprint LT-GN-28_N (SOP, 28-Leads, Body 9.98x3.98mm, Pitch 0.635mm, IPC Medium Density)
footprint LT-GN-28_L (SOP, 28-Leads, Body 9.98x3.98mm, Pitch 0.635mm, IPC High Density)
footprint LT-GN-28_M (SOP, 28-Leads, Body 9.98x3.98mm, Pitch 0.635mm, IPC Low Density)
pins: 1 PLLLPF (in) "This pin serves as the lowpass filter for the phase-locked loop when the part is being synchronized. The average voltage on this pin equally alters both the oscillator charge and discharge currents, thereby changing the (See Datasheet)", 2 RSLEW (in) "Placing a resistor from this pin to AGND sets the voltage slew rate of the output driver pins. The minimum resistor value is 10k and the maximum value is 300k. Slew rate limiting can be disabled by tying this pin to VDD, (See Datasheet)", 3 ~{SDSYNC} (in) "This pin can be used to disable the IC, synchronize the internal oscillator or be the master to synchronize other devices. Grounding this pin will disable all internal circuitry and cause NDRVA and NDRVB to be forced low and (See Datasheet)", 4 CNTRL (in) "Noninverting Input to the Error Amplifier.", 5 EAOUT (out) "Output of the Error Amplifier. The loop compensation network is connected between this pin and FB. The voltage on this pin is the input to the PWM comparator and commands anywhere between 0% and 100% duty cycle to control (See Datasheet)", 6 FB (in) "The Inverting Input to the Error Amplifier. This input is connected to EAOUT through a compensating feedback network.", 7 AGND (power) "Signal Ground. All voltages are measured with respect to AGND. Bypass VDD and VREF with low ESR capacitors to the ground plane near this pin", 8 SS (in) "The TEC current can be soft-started by adding a capacitor from this pin to ground. This capacitor will be charged by a 1.5 uA current source. This pin connects to one of the inverting inputs of the current limit comparator (See Datasheet)", 9 ILIM (in) "A voltage divider from VREF to this pin sets the current limit threshold for the TEC. If the voltage on this pin is set higher than 1V, then ILIMIT = 150mV/RS as that is the internal current limit comparator level. If the (See Datasheet)", 10 VSET (in) "This is the input for the setpoint reference of the temperature sense element divider network or bridge. This pin must be connected to the bias source for the thermistor divider network", 11 ~{FAULT} (oc) "Open-drain output that indicates by pulling low when the voltage on VTHRM is outside the specified window, the part is in shutdown, undervoltage lockout (UVLO), or the reference is not good. When the voltage on VTHRM is (See Datasheet)", 12 VTHRM (in) "Voltage Across the Thermistor. If the voltage on this pin is outside the range between 410mV below VSET and 0.2 • VSET, the F\A\U\L\T\ pin will be asserted (and latched) low indicating that the thermistor temperature ha(See Datasheet)", 13 H/C (oc) "This open-drain output provides the direction information of the TEC current flow. If TEC+ is greater than TEC-, which typically corresponds to the system cooling, this output will be a logic low. If the opposite is the (See Datasheet)", 14 VTEC (out) "Output of the differential TEC voltage amplifier equal to the magnitude of the voltage across the TEC.", 15 TEC- (in) "Inverting Input to the Differential TEC Voltage Amplifier. This amplifier has a fixed gain of 1 with its output being the voltage across the TEC with respect to AGND. This input, along with TEC+, signifies whether the TEC is (See Datasheet)", 16 TEC+ (in) "Noninverting Input to the Differential TEC Voltage Amplifier.", 17 ITEC (out) "Output of the Differential Current Sense Amplifier. The voltage on this pin is equal to 10 • (ITEC + IRIPPLE) • RS, where ITEC is the thermoelectric cooler current, IRIPPLE is the inductor ripple current and RS is (See Datasheet)", 18 CS- (in) "Inverting Input to the Differential Current Sense Amplifier.", 19 CS+ (in) "Noninverting Input of the Differential Current Sense Amplifier. The amplifier has a fixed gain of 10.", 20 PDRVA (out) "These pushpull outputs are configured to drive the opposite high side PMOS switches in a full-bridge arrangement.", 21 NDRVA (out) "These pushpull outputs are configured to drive the opposite low side switches in a full-bridge arrangement.", 22 PGND (power) "This is the high current ground for the IC. The external current sense resistor should be referenced to this point.", 23 VDD (power) "Positive Supply Rail for the IC. Bypass this pin to PGND and AGND with >10uF low ESL, ESR ceramic capacitors. The turn on voltage level for VDD is 2.6V with 130mV of hysteresis.", 24 NDRVB (out) "These pushpull outputs are configured to drive the opposite low side switches in a full-bridge arrangement.", 25 PDRVB (out) "These pushpull outputs are configured to drive the opposite high side PMOS switches in a full-bridge arrangement.", 26 VREF (out) "This is the output of the Reference. This pin should be bypassed to GND with a 1uF ceramic capacitor. The reference is able to supply a minimum of 10mA of current and is internally short-circuit current limited", 27 CT "The triangular wave oscillator timing capacitor pin is used in conjunction with RT to set the oscillator frequency.", 28 RT "A single resistor from RT to AGND sets the charging and discharging currents for the triangle oscillator. This pin also sets the dead time between turning one set of outputs off and turning the other set on to ensure the (See Datasheet)"